# Altium footprint library 2.8inch_IPS_ESP32-S3_Display.PcbLib: 26 footprints (part 1 of 2)
Each footprint in its own frame and in the unit in brackets; x right, y up, seen from the top. Pads: shape width x height; smd on the part's side, far side on the other; paste and mask are expansions set on the pad; w line width, h text height; cw(c..) or ccw(c..) is an arc to the next point about the centre after c.
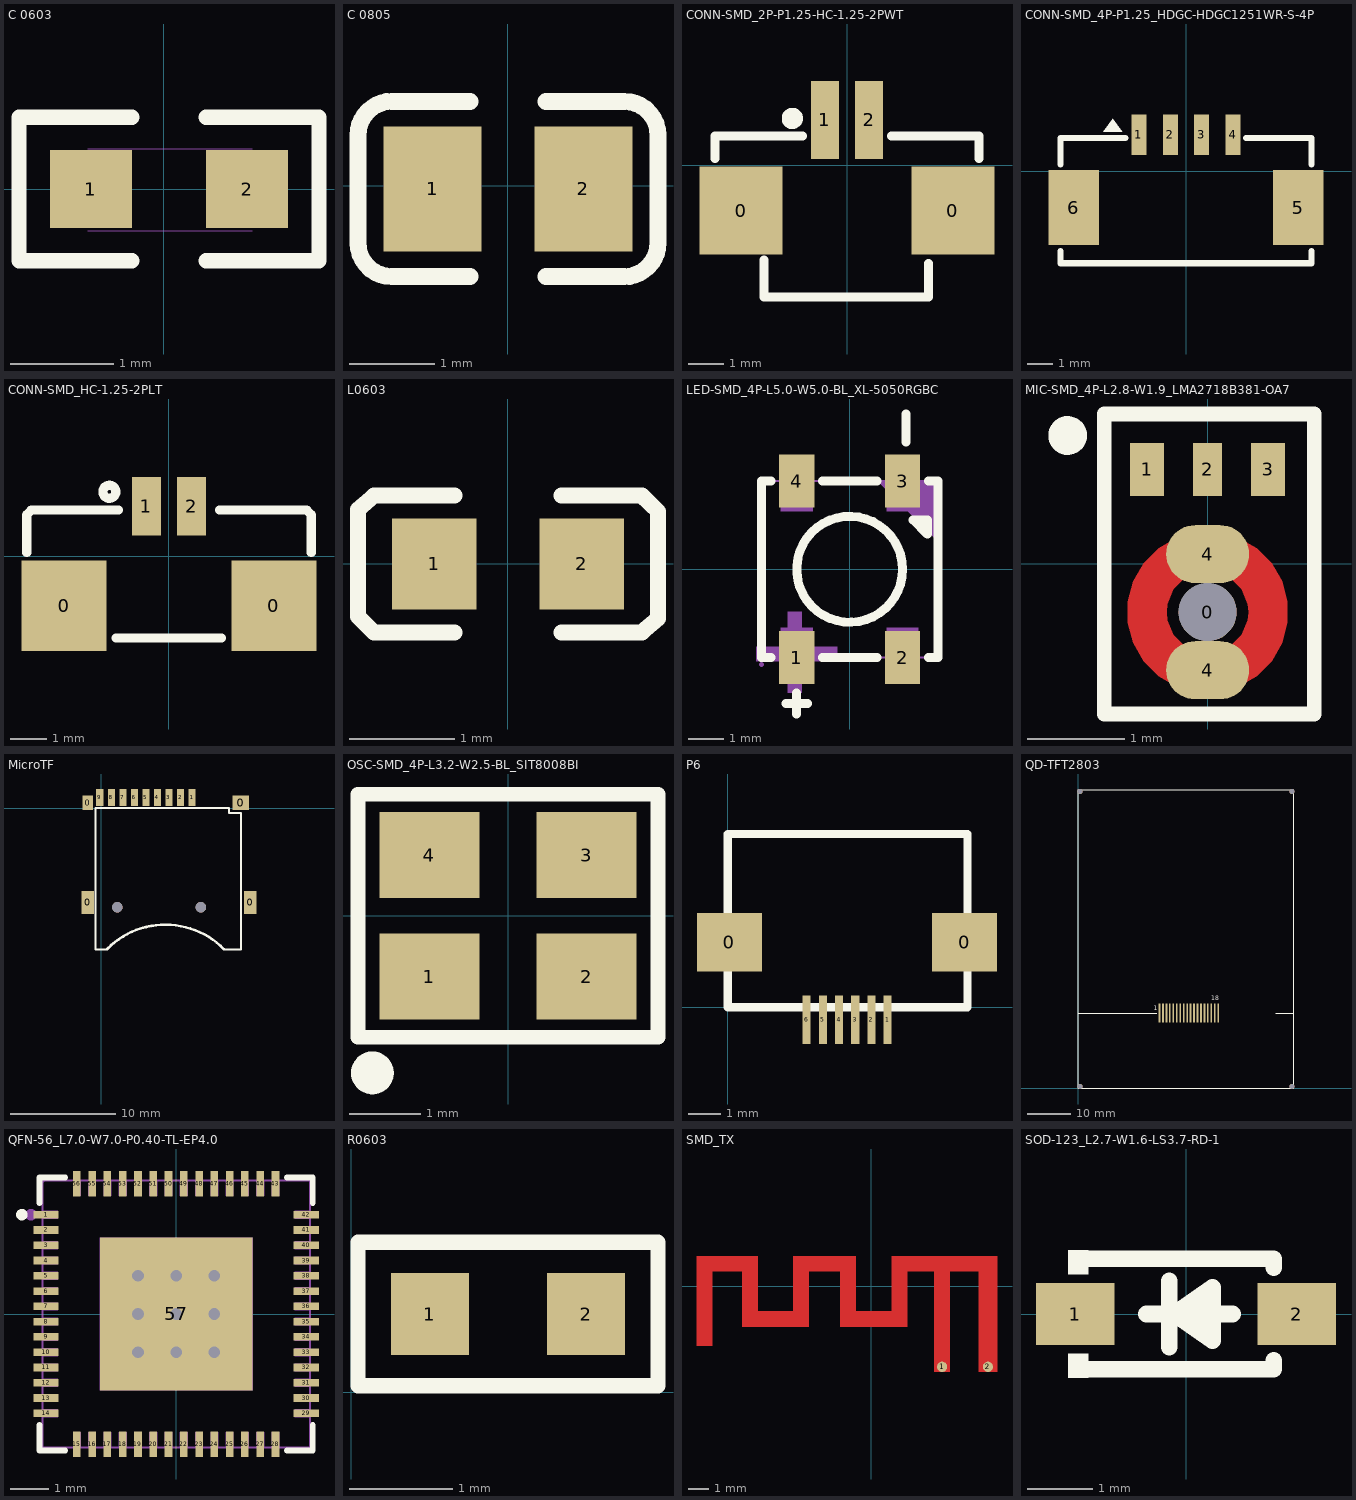
[diagram p0: the footprints below, top view; thin cyan lines are the x and y axes]

## C 0603 [mm] "无极性贴片电容"
pads (2):
  rect 0.8x0.76 smd: 1(-0.711,0) 2(0.809,0)
Top Overlay:
  lines w0.15: -0.311,-0.7 -1.411,-0.7 -1.411,0.7 -0.311,0.7 ; 0.409,-0.7 1.509,-0.7 1.509,0.7 0.409,0.7
Mechanical 13:
  lines w0.01: -0.742,-0.406 0.858,-0.406 ; -0.742,0.394 0.858,0.394
3D body "C 0603.STEP": height 0.81, standoff -0.01, extent -0.742,-0.41 0.858,0.41

## C 0805 [mm] "无极性贴片电容"
height 0.5
pads (2):
  rect 1.16x1.47 smd: 1(-0.885,-0.039) 2(0.895,-0.039)
Top Overlay:
  lines w0.2: -0.445,-1.074 -1.365,-1.074 cw(c-1.365,-0.674) -1.765,-0.674 -1.765,0.596 cw(c-1.365,0.596) -1.365,0.996 -0.445,0.996 ; 0.455,-1.074 1.375,-1.074 ccw(c1.375,-0.674) 1.775,-0.674 1.775,0.596 ccw(c1.375,0.596) 1.375,0.996 0.455,0.996
3D body "User Library-0805 SMD Capacitor.STEP": height 0.77, standoff -0.01, extent -0.995,-0.664 1.005,0.586

## CONN-SMD_2P-P1.25-HC-1.25-2PWT [mm]
pads (4):
  rect 2.35x2.5 smd paste+0 mask+0.05: 0(-3.005,-1.285) 0(3.005,-1.285)
  rect 0.8x2.2 smd paste+0 mask+0.05: 1(-0.625,1.285) 2(0.625,1.285)
Top Overlay:
  circle w0.3: c-1.55,1.33 r0.15
  lines w0.254: -3.75,0.196 -3.75,0.835 -1.256,0.835 ; -2.36,-2.69 -2.36,-3.73 2.31,-3.73 2.31,-2.78 ; 1.256,0.835 3.75,0.835 3.75,0.196

## CONN-SMD_4P-P1.25_HDGC-HDGC1251WR-S-4P [mm]
pads (6):
  rect 0.6x1.6 smd mask+0.05: 1(-1.875,1.45) 2(-0.625,1.45) 3(0.625,1.45) 4(1.875,1.45)
  rect 2x3 smd mask+0.05: 5(4.475,-1.45) 6(-4.475,-1.45)
Top Overlay:
  region: -3.175,1.577 -3.302,1.577 -2.921,2.085 -2.54,1.577 -3.175,1.577
  lines w0.254: -5,-3.181 -5,-3.669 5,-3.669 5,-3.181 ; -5,0.281 -5,1.323 -2.413,1.323 ; 2.406,1.323 5,1.323 5,0.281

## CONN-SMD_HC-1.25-2PLT [mm]
pads (4):
  rect 2.35x2.5 smd paste+0 mask+0.05: 0(-2.9,-1.38) 0(2.9,-1.38)
  rect 0.8x1.62 smd paste+0 mask+0.05: 1(-0.625,1.38) 2(0.625,1.38)
Top Overlay:
  circle w0.254: c-1.651,1.778 r0.18
  lines w0.254: -3.937,0.101 -3.937,1.143 -3.81,1.27 -1.397,1.27 ; -1.47,-2.27 1.451,-2.27 ; 1.397,1.27 3.81,1.27 3.937,1.143 3.937,0.101

## L0603 [mm]
pads (2):
  rect 0.8x0.864 smd paste-100 mask+0.051: 1(-0.7,0) 2(0.7,0)
Top Overlay:
  lines w0.152: -1.272,-0.65 -0.51,-0.65 ; -1.272,0.65 -0.51,0.65 ; -1.27,-0.651 -1.424,-0.499 -1.424,0.517 -1.27,0.65 ; 0.51,-0.65 1.272,-0.65 ; 0.51,0.65 1.272,0.65 ; 1.27,-0.65 1.424,-0.517 1.424,0.499 1.27,0.65

## LED-SMD_4P-L5.0-W5.0-BL_XL-5050RGBC [mm]
pads (4):
  rect 1x1.5 smd: 1(-1.5,-2.5) 2(1.5,-2.5) 3(1.5,2.5) 4(-1.5,2.5)
Top Overlay:
  circle w0.254: c0,-0.001 r1.5
  lines w0.254: -2.23,-2.501 -2.5,-2.501 -2.5,2.499 -2.23,2.499 ; -1.8,-3.8 -1.2,-3.8 ; -1.5,-4.1 -1.5,-3.5 ; -0.77,-2.501 0.77,-2.501 ; -0.77,2.499 0.77,2.499 ; 1.6,3.6 1.6,4.4 ; 2.23,-2.501 2.5,-2.501 2.5,2.499 2.23,2.499 ; 1.8,1.399 2.2,1.399 2.2,0.999 1.8,1.399
Mechanical 6:
  region: -2.65,-2.2 -2.65,-2.6 -0.35,-2.6 -0.35,-2.2
  region: -1.75,-3.5 -1.75,-1.2 -1.45,-1.2 -1.35,-1.2 -1.35,-1.3 -1.35,-3.5
  region: 0.9,2.5 0.8,2.5 0.9,2.4 2.5,0.8 2.5,2.5
Mechanical 15:
  region: -2.44,-2.7 -2.44,-2.675 -2.475,-2.64 -2.525,-2.64 -2.56,-2.675 -2.56,-2.7 -2.56,-2.725 -2.525,-2.76 -2.475,-2.76 -2.44,-2.725
  region: -1.05,2.7 -1.05,1.65 -1.95,1.65 -1.95,2.7
  region: -1.05,-1.65 -1.05,-2.7 -1.95,-2.7 -1.95,-1.65
  region: 1.95,-1.65 1.95,-2.7 1.05,-2.7 1.05,-1.65
  region: 1.95,2.7 1.95,1.65 1.05,1.65 1.05,2.7
  lines w0.051: -2.5,-2.5 -2.5,2.5 2.5,2.5 2.5,-2.5 -2.5,-2.5

## MIC-SMD_4P-L2.8-W1.9_LMA2718B381-OA7 [mm]
pads (6):
  round 0.6 hole 0.6 unplated mask+0.051: 0(0,-0.498)
  rect 0.35x0.55 smd paste-100 mask+0.051: 1(-0.625,0.977) 3(0.625,0.977)
  rect 0.3x0.55 smd paste-100 mask+0.051: 2(0,0.977)
  oval 0.859x0.6 smd mask+0.051: 4(0,-1.098) 4(0,0.102)
Top Layer:
  region: -0.825,-0.498 -0.825,-0.389 -0.769,-0.179 -0.66,0.009 -0.506,0.162 -0.318,0.271 -0.109,0.327 0.109,0.327 0.319,0.271 0.507,0.162 0.66,0.009 0.769,-0.179 0.825,-0.389 0.825,-0.498 0.425,-0.498 0.417,-0.415 0.353,-0.262 0.236,-0.144 0.083,-0.081 -0.083,-0.081 -0.236,-0.144 -0.353,-0.262 -0.417,-0.415 -0.425,-0.498
  region: -0.825,-0.498 -0.825,-0.606 -0.769,-0.816 -0.66,-1.004 -0.506,-1.158 -0.318,-1.267 -0.109,-1.323 0.109,-1.323 0.319,-1.267 0.507,-1.158 0.66,-1.004 0.769,-0.816 0.825,-0.606 0.825,-0.498 0.425,-0.498 0.417,-0.581 0.353,-0.734 0.236,-0.851 0.083,-0.915 -0.083,-0.915 -0.236,-0.851 -0.353,-0.734 -0.417,-0.581 -0.425,-0.498
Top Overlay:
  circle w0.2: c-1.447,1.327 r0.1
  lines w0.15: -1.07,-1.55 -1.07,1.55 1.1,1.55 1.1,-1.55 -1.07,-1.55
Top Paste:
  region: -0.825,-0.498 -0.825,-0.606 -0.769,-0.816 -0.66,-1.004 -0.506,-1.158 -0.318,-1.267 -0.109,-1.323 0.109,-1.323 0.319,-1.267 0.507,-1.158 0.66,-1.004 0.769,-0.816 0.825,-0.606 0.825,-0.498 0.425,-0.498 0.417,-0.581 0.353,-0.734 0.236,-0.851 0.083,-0.915 -0.083,-0.915 -0.236,-0.851 -0.353,-0.734 -0.417,-0.581 -0.425,-0.498
  region: -0.825,-0.498 -0.825,-0.389 -0.769,-0.179 -0.66,0.009 -0.506,0.162 -0.318,0.271 -0.109,0.327 0.109,0.327 0.319,0.271 0.507,0.162 0.66,0.009 0.769,-0.179 0.825,-0.389 0.825,-0.498 0.425,-0.498 0.417,-0.415 0.353,-0.262 0.236,-0.144 0.083,-0.081 -0.083,-0.081 -0.236,-0.144 -0.353,-0.262 -0.417,-0.415 -0.425,-0.498
Top Solder:
  region: -0.825,-0.498 -0.825,-0.606 -0.769,-0.816 -0.66,-1.004 -0.506,-1.158 -0.318,-1.267 -0.109,-1.323 0.109,-1.323 0.319,-1.267 0.507,-1.158 0.66,-1.004 0.769,-0.816 0.825,-0.606 0.825,-0.498 0.425,-0.498 0.417,-0.581 0.353,-0.734 0.236,-0.851 0.083,-0.915 -0.083,-0.915 -0.236,-0.851 -0.353,-0.734 -0.417,-0.581 -0.425,-0.498
  region: -0.825,-0.498 -0.825,-0.389 -0.769,-0.179 -0.66,0.009 -0.506,0.162 -0.318,0.271 -0.109,0.327 0.109,0.327 0.319,0.271 0.507,0.162 0.66,0.009 0.769,-0.179 0.825,-0.389 0.825,-0.498 0.425,-0.498 0.417,-0.415 0.353,-0.262 0.236,-0.144 0.083,-0.081 -0.083,-0.081 -0.236,-0.144 -0.353,-0.262 -0.417,-0.415 -0.425,-0.498

## MicroTF [mm]
height 2.65
pads (15):
  rect 1x1.4 smd: 0(-1.3,0.526)
  rect 1.2x2.2 smd: 0(-1.3,-8.994) 0(14.2,-8.994)
  rect 1.6x1.4 smd: 0(13.3,0.526)
  rect 0.7x1.6 smd: 1(8.65,1.026) 2(7.55,1.026) 3(6.45,1.026) 4(5.35,1.026) 5(4.25,1.026) 6(3.15,1.026) 7(2.05,1.026) 8(0.95,1.026) 9(-0.15,1.026)
  round 1 hole 1 unplated: ""(1.52,-9.474) ""(9.5,-9.474)
Top Overlay:
  lines w0.2: 0.563,-13.5 -0.559,-13.5 -0.559,0.026 12.192,0.026 ; 11.709,-13.5 13.335,-13.5 13.335,-0.483
  lines w0.203: 12.192,0.026 12.192,-0.483 13.335,-0.483
  lines w0.254: 0.563,-13.43 cw(c6.113,-18.98) 11.721,-13.489
3D body "User Library-MEM2055-00-190-01-A_revG.STEP": height 1.85, standoff -0.6, extent -1.548,-13.472 14.452,1.778

## OSC-SMD_4P-L3.2-W2.5-BL_SIT8008BI [mm]
pads (4):
  rect 1.4x1.2 smd: 1(-1.1,-0.85) 2(1.1,-0.85) 3(1.1,0.85) 4(-1.1,0.85)
Top Overlay:
  lines w0.203: -2.1,-1.7 -2.1,1.7 2.1,1.7 2.1,-1.7 -2.1,-1.7
  lines w0.3: -1.9,-2.05 ccw(c-1.899,-2.2) -1.897,-2.05

## P6 [mm] "FPC_CONNECTOR"
height 2
pads (8):
  rect 2x1.8 smd: 0(0.051,2.007) 0(7.315,2.007)
  rect 0.25x1.5 smd: 1(4.938,-0.381) 2(4.438,-0.381) 3(3.938,-0.381) 4(3.438,-0.381) 5(2.938,-0.381) 6(2.438,-0.381)
Top Overlay:
  lines w0.254: 0,0 7.4,0 7.4,5.35 0,5.35 0,0

## QD-TFT2803 [mm]
pads (22):
  round 1.2 hole 1.2 unplated: 0(0.47,0.47) 0(0.47,68.73) 0(49.53,0.47) 0(49.53,68.73)
  rect 0.4x4.5 smd: 1(18.86,17.46) 2(19.66,17.46) 3(20.46,17.46) 4(21.26,17.46) 5(22.06,17.46) 6(22.86,17.46) 7(23.66,17.46) 8(24.46,17.46) 9(25.26,17.46) 10(26.06,17.46) 11(26.86,17.46) 12(27.66,17.46) 13(28.46,17.46) 14(29.26,17.46) 15(30.06,17.46) 16(30.86,17.46) 17(31.66,17.46) 18(32.46,17.46)
Top Overlay:
  lines w0.254: 0,17.46 18.28,17.46 ; 45.81,17.46 50,17.46 ; 0,0 50,0 50,69.2 0,69.2 0,0
  text "18" at 30.822,20.398 h1.02
  text "1" at 17.557,18.095 h1.02

## QFN-56_L7.0-W7.0-P0.40-TL-EP4.0 [mm]
pads (57):
  rect 0.665x0.2 smd paste-100 mask+0.051: 1(-3.408,2.6) 2(-3.408,2.2) 3(-3.408,1.8) 4(-3.408,1.4) 5(-3.408,1) 6(-3.408,0.6) 7(-3.408,0.2) 8(-3.408,-0.2) 9(-3.408,-0.6) 10(-3.408,-1) 11(-3.408,-1.4) 12(-3.408,-1.8) 13(-3.408,-2.2) 14(-3.408,-2.6) 29(3.408,-2.6) 30(3.408,-2.2) 31(3.408,-1.8) 32(3.408,-1.4) 33(3.408,-1) 34(3.408,-0.6) 35(3.408,-0.2) 36(3.408,0.2) 37(3.408,0.6) 38(3.408,1) 39(3.408,1.4) 40(3.408,1.8) 41(3.408,2.2) 42(3.408,2.6)
  rect 0.2x0.665 smd paste-100 mask+0.051: 15(-2.6,-3.408) 16(-2.2,-3.408) 17(-1.8,-3.408) 18(-1.4,-3.408) 19(-1,-3.408) 20(-0.6,-3.408) 21(-0.2,-3.408) 22(0.2,-3.408) 23(0.6,-3.408) 24(1,-3.408) 25(1.4,-3.408) 26(1.8,-3.408) 27(2.2,-3.408) 28(2.6,-3.408) 43(2.6,3.408) 44(2.2,3.408) 45(1.8,3.408) 46(1.4,3.408) 47(1,3.408) 48(0.6,3.408) 49(0.2,3.408) 50(-0.2,3.408) 51(-0.6,3.408) 52(-1,3.408) 53(-1.4,3.408) 54(-1.8,3.408) 55(-2.2,3.408) 56(-2.6,3.408)
  rect 4x4 smd paste-100 mask+0.051: 57(0,0)
via 1,0 diameter 0.61 hole 0.305
via 1,1 diameter 0.61 hole 0.305
via -1,0 diameter 0.61 hole 0.305
via -1,1 diameter 0.61 hole 0.305
via 1,-1 diameter 0.61 hole 0.305
via -1,-1 diameter 0.61 hole 0.305
via 0,0 diameter 0.61 hole 0.305
via 0.001,-1 diameter 0.61 hole 0.305
via 0,1 diameter 0.61 hole 0.305
Top Overlay:
  circle w0.15: c-4.04,2.6 r0.075
  lines w0.152: -3.576,-2.902 -3.576,-3.576 -2.902,-3.576 ; -3.576,2.903 -3.576,3.576 -2.902,3.576 ; 2.903,-3.576 3.576,-3.576 3.576,-2.902 ; 2.903,3.576 3.576,3.576 3.576,2.903
Top Paste:
  drawing of 57 lines, arcs and shapes, not listed
Mechanical 6:
  circle w0.15: c-3.8,2.6 r0.075
Mechanical 15:
  drawing of 62 lines, arcs and shapes, not listed

## R0603 [mm]
pads (2):
  rect 0.76x0.8 smd: 1(0.766,0.762) 2(2.286,0.762)
Top Overlay:
  lines w0.15: 0.066,0.062 0.066,1.462 2.986,1.462 2.986,0.062 0.066,0.062
3D body "RES0603.STEP": height 0.65, standoff 0.2, extent 0.749,0.348 2.349,1.168

## SMD_TX [mm]
pads (2):
  round 0.5 smd mask+0.102: 1(3.467,-3.939)
  round 0.5 smd: 2(5.705,-3.939)
Top Layer:
  region: -7.74,-2.913 -8.495,-2.913 -8.495,0.716
  region: -7.74,-2.913 -8.495,0.716 -7.74,0.716
  region: -5.539,-1.233 -6.294,-1.233 -6.294,0.716
  region: -5.539,-1.233 -6.294,0.716 -5.539,0.716
  region: 1.77,-1.233 1.019,-1.233 1.019,0.716
  region: 1.77,-1.233 1.019,0.716 1.77,0.716
  region: 3.845,-4.189 3.09,-4.189 3.09,0.716
  region: 3.845,-4.189 3.09,0.716 3.845,0.716
  region: 6.146,-4.189 5.264,-4.189 5.264,0.716
  region: 6.146,-4.189 5.264,0.716 6.146,0.716
  region: -3.039,-1.988 -6.294,-1.988 -6.294,-1.233
  region: -3.039,-1.988 -6.294,-1.233 -3.039,-1.233
  region: -5.539,0.716 -8.495,0.716 -8.495,1.467
  region: -5.539,0.716 -8.495,1.467 -5.539,1.467
  region: 1.77,-1.988 -1.494,-1.988 -1.494,-1.233
  region: 1.77,-1.988 -1.494,-1.233 1.77,-1.233
  region: -3.039,-1.233 -3.794,-1.233 -3.794,0.716
  region: -3.039,-1.233 -3.794,0.716 -3.039,0.716
  region: -0.738,-1.233 -1.494,0.716 -0.738,0.716
  region: -0.738,0.716 -3.794,0.716 -3.794,1.467
  region: -0.738,0.716 -3.794,1.467 -0.738,1.467
  region: 6.146,0.716 1.019,0.716 1.019,1.467
  region: 6.146,0.716 1.019,1.467 6.146,1.467
  region: -0.738,-1.233 -1.494,-1.233 -1.494,0.716

## SOD-123_L2.7-W1.6-LS3.7-RD-1 [mm]
pads (2):
  rect 1.2x0.95 smd: 1(-1.7,0) 2(1.7,0)
Top Overlay:
  region: 0.406,-0.406 0.406,0.406 -0.178,0
  region: -1.502,0.977 -1.502,0.607 -1.806,0.607 -1.806,0.977
  region: -1.502,-0.977 -1.502,-0.607 -1.806,-0.607 -1.806,-0.977
  lines w0.254: -1.644,0.849 -1.643,0.85 -1.346,0.85 1.346,0.85 1.346,0.706 ; -1.639,-0.849 -1.638,-0.85 -1.346,-0.85 1.346,-0.85 1.346,-0.706 ; -0.61,0 -0.28,0 ; -0.254,-0.508 -0.254,0.508 ; 0.406,0 0.72,0 ; -0.178,0 0.406,0.406 0.406,-0.406 -0.178,0